# Altium schematic symbol library SRP7028A-1R8M.SchLib: 1 symbol
Pins are listed as number, name and electrical type; pins without a type are passive.

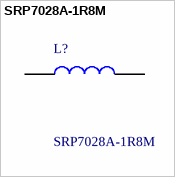
[diagram p0: symbol SRP7028A-1R8M]

## SRP7028A-1R8M
designator L?
Bourns SRP7028A Series Shielded Wire-wound SMD Inductor with a Carbonyl Powder Core, 1.8 uH +/-20% 8.5A Idc; Geometry.Height: 3mm; Manufacturer_Name: Bourns; Manufacturer_Part_Number: SRP7028A-1R8M; Mouser Part Number: 652-SRP7028A-1R8M; Mouser Price/Stock: https://www.mouser.co.uk/ProductDetail/Bourns/SRP7028A-1R8M?qs=7z%252BmIopC6%2FJ3f%2FcMDr%252Bn6A%3D%3D; Arrow Part Number: SRP7028A-1R8M; Arrow Price/Stock: https://www.arrow.com/en/products/srp7028a-1r8m/bourns?region=nac; Datasheet Link: http://www.farnell.com/datasheets/2361968.pdf
footprint INDPM7366X300N
pins: 1, 2